# Altium footprint library CAN_Sniffer_HAT.PcbLib: 11 footprints
Each footprint in its own frame and in the unit in brackets; x right, y up, seen from the top. Pads: shape width x height; smd on the part's side, far side on the other; paste and mask are expansions set on the pad; w line width, h text height; cw(c..) or ccw(c..) is an arc to the next point about the centre after c.
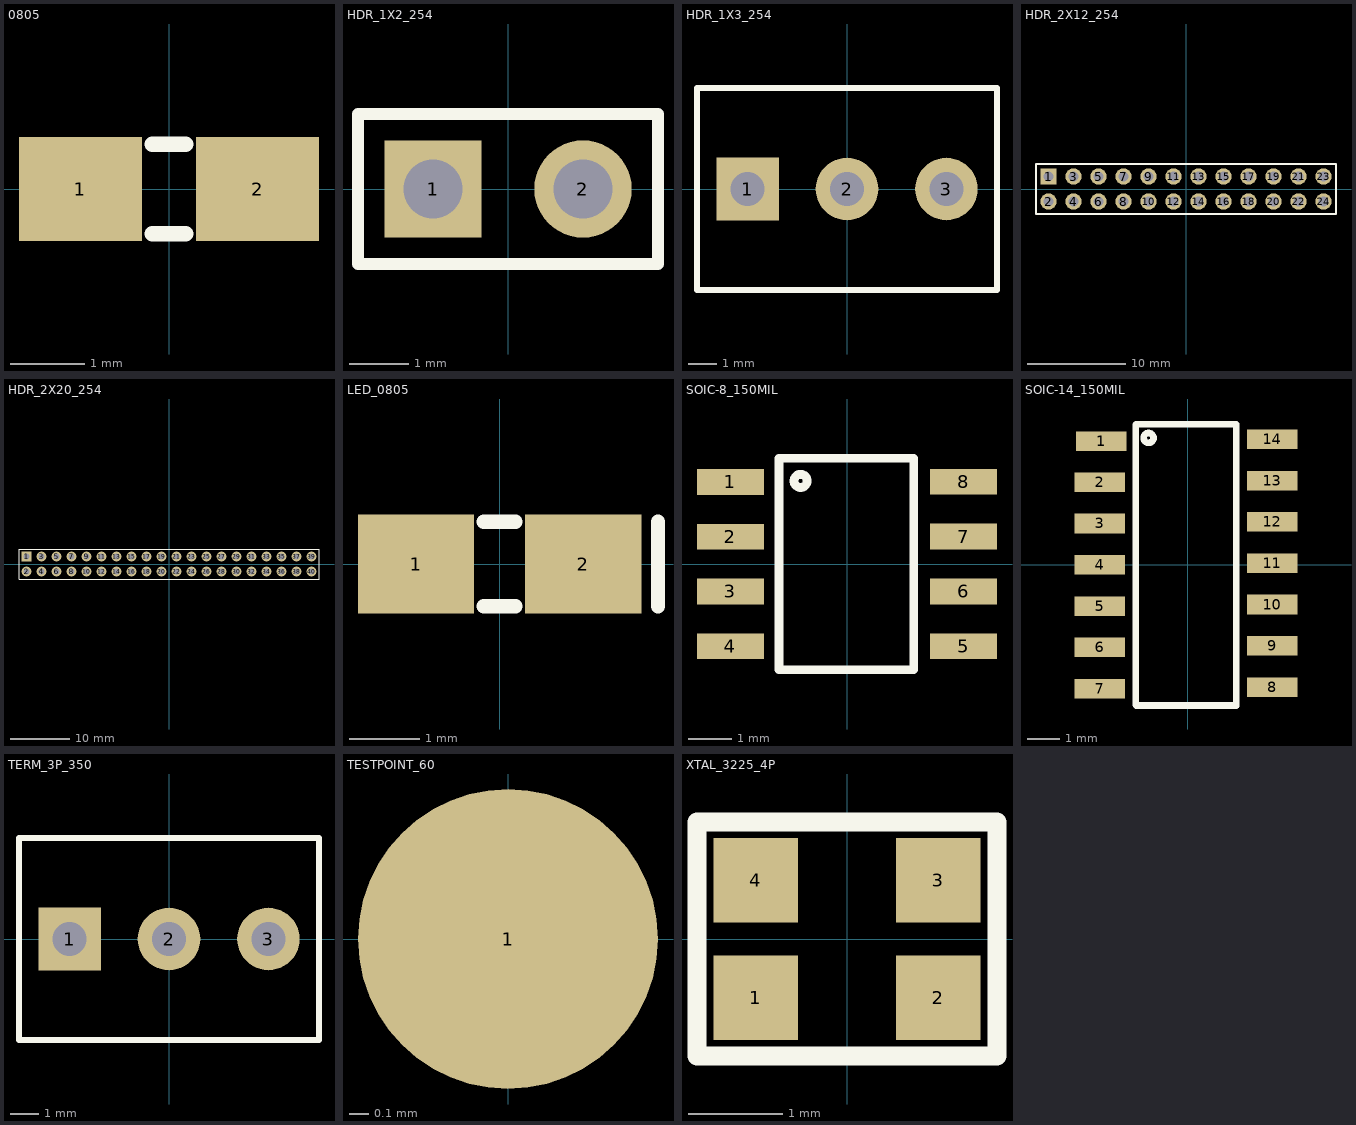
[diagram p0: the footprints below, top view; thin cyan lines are the x and y axes]

## 0805 [mm] "0805 chip resistor/capacitor, hand-solder land"
pads (2):
  rect 1.65x1.4 smd: 1(-1.187,0) 2(1.187,0)
Top Overlay:
  lines w0.203: -0.225,-0.6 0.225,-0.6 ; -0.225,0.6 0.225,0.6

## HDR_1X2_254 [mm] "2-pin header for shunt, 2.54 mm pitch, through-hole"
pads (2):
  rect 1.65x1.65 hole 1: 1(-1.27,0)
  round 1.65 hole 1: 2(1.27,0)
Top Overlay:
  lines w0.203: -2.54,-1.27 2.54,-1.27 2.54,1.27 -2.54,1.27 -2.54,-1.27

## HDR_1X3_254 [mm] "3-position pluggable screw terminal, 3.5 mm pitch"
pads (3):
  rect 2.2x2.2 hole 1.2: 1(-3.5,0)
  round 2.2 hole 1.2: 2(0,0) 3(3.5,0)
Top Overlay:
  lines w0.203: -5.278,-3.556 5.278,-3.556 5.278,3.556 -5.278,3.556 -5.278,-3.556

## HDR_2X12_254 [mm] "2x12 pin header, 2.54 mm pitch, through-hole"
pads (24):
  rect 1.65x1.65 hole 1: 1(-13.97,1.27)
  round 1.65 hole 1: 2(-13.97,-1.27) 3(-11.43,1.27) 4(-11.43,-1.27) 5(-8.89,1.27) 6(-8.89,-1.27) 7(-6.35,1.27) 8(-6.35,-1.27) 9(-3.81,1.27) 10(-3.81,-1.27) 11(-1.27,1.27) 12(-1.27,-1.27) 13(1.27,1.27) 14(1.27,-1.27) 15(3.81,1.27) 16(3.81,-1.27) 17(6.35,1.27) 18(6.35,-1.27) 19(8.89,1.27) 20(8.89,-1.27) 21(11.43,1.27) 22(11.43,-1.27) 23(13.97,1.27) 24(13.97,-1.27)
Top Overlay:
  lines w0.203: -15.24,-2.54 -15.24,2.54 15.24,2.54 15.24,-2.54 -15.24,-2.54

## HDR_2X20_254 [mm] "2x20 pin header, 2.54 mm pitch, through-hole"
pads (40):
  rect 1.65x1.65 hole 1: 1(-24.13,1.27)
  round 1.65 hole 1: 2(-24.13,-1.27) 3(-21.59,1.27) 4(-21.59,-1.27) 5(-19.05,1.27) 6(-19.05,-1.27) 7(-16.51,1.27) 8(-16.51,-1.27) 9(-13.97,1.27) 10(-13.97,-1.27) 11(-11.43,1.27) 12(-11.43,-1.27) 13(-8.89,1.27) 14(-8.89,-1.27) 15(-6.35,1.27) 16(-6.35,-1.27) 17(-3.81,1.27) 18(-3.81,-1.27) 19(-1.27,1.27) 20(-1.27,-1.27) 21(1.27,1.27) 22(1.27,-1.27) 23(3.81,1.27) 24(3.81,-1.27) 25(6.35,1.27) 26(6.35,-1.27) 27(8.89,1.27) 28(8.89,-1.27) 29(11.43,1.27) 30(11.43,-1.27) 31(13.97,1.27) 32(13.97,-1.27) 33(16.51,1.27) 34(16.51,-1.27) 35(19.05,1.27) 36(19.05,-1.27) 37(21.59,1.27) 38(21.59,-1.27) 39(24.13,1.27) 40(24.13,-1.27)
Top Overlay:
  lines w0.203: -25.4,-2.54 -25.4,2.54 25.4,2.54 25.4,-2.54 -25.4,-2.54

## LED_0805 [mm] "0805 LED, hand-solder land, pad 2 = cathode"
pads (2):
  rect 1.65x1.4 smd: 1(-1.187,0) 2(1.187,0)
Top Overlay:
  lines w0.203: -0.225,-0.6 0.225,-0.6 ; -0.225,0.6 0.225,0.6 ; 2.25,-0.6 2.25,0.6

## SOIC-8_150MIL [mm] "8-lead SOIC, 150 mil body, 1.27 mm pitch"
pads (8):
  rect 1.55x0.6 smd: 1(-2.7,1.9) 2(-2.7,0.632) 3(-2.7,-0.637) 4(-2.7,-1.905) 5(2.7,-1.905) 6(2.7,-0.635) 7(2.7,0.635) 8(2.7,1.905)
Top Overlay:
  circle w0.203: c-1.075,1.925 r0.152
  lines w0.203: 1.525,-2.45 -1.573,-2.45 -1.573,-1.225 -1.573,1.225 -1.573,2.45 1.548,2.45 1.548,1.225 1.548,-1.225 1.548,-2.45
3D body: height 0.25, standoff 0, extent -2.25,-2.55 2.25,2.55

## SOIC-14_150MIL [mm] "14-lead SOIC, 150 mil body, 1.27 mm pitch"
pads (14):
  rect 1.55x0.6 smd: 1(-2.65,3.8) 2(-2.7,2.54) 3(-2.7,1.27) 4(-2.7,0) 5(-2.7,-1.27) 6(-2.7,-2.54) 7(-2.7,-3.81) 8(2.6,-3.76) 9(2.6,-2.49) 10(2.6,-1.22) 11(2.6,0.05) 12(2.6,1.32) 13(2.6,2.59) 14(2.6,3.86)
Top Overlay:
  circle w0.203: c-1.2,3.9 r0.152
  lines w0.203: 1.5,-4.325 -1.575,-4.325 -1.598,-4.302 -1.598,4.302 -1.575,4.325 1.5,4.325 1.5,-4.325 ; 1.5,-4.325 1.5,-4.325
3D body: height 0.25, standoff 0, extent -2.338,-4.425 2.324,4.425

## TERM_3P_350 [mm] "3-position pluggable screw terminal, 3.5 mm pitch"
pads (3):
  rect 2.2x2.2 hole 1.2: 1(-3.5,0)
  round 2.2 hole 1.2: 2(0,0) 3(3.5,0)
Top Overlay:
  lines w0.203: -5.278,-3.556 5.278,-3.556 5.278,3.556 -5.278,3.556 -5.278,-3.556

## TESTPOINT_60 [mil] "Test point, 60 mil round pad"
pads (1):
  round 60 smd: 1(0,0)

## XTAL_3225_4P [mm] "3.2 x 2.5 mm 4-pad crystal - VERIFY against ordered part"
pads (4):
  rect 0.9x0.9 smd: 1(-0.975,-0.625) 2(0.975,-0.625) 3(0.975,0.625) 4(-0.975,0.625)
Top Overlay:
  lines w0.203: -1.6,-1.25 1.6,-1.25 1.6,1.25 -1.6,1.25 -1.6,-1.25
3D body: height 0.25, standoff 0, extent -1.775,-1.45 1.8,1.45